# Altium footprint library IC.PcbLib: 1 footprints
Each footprint in its own frame and in the unit in brackets; x right, y up, seen from the top. Pads: shape width x height; smd on the part's side, far side on the other; paste and mask are expansions set on the pad; w line width, h text height; cw(c..) or ccw(c..) is an arc to the next point about the centre after c.
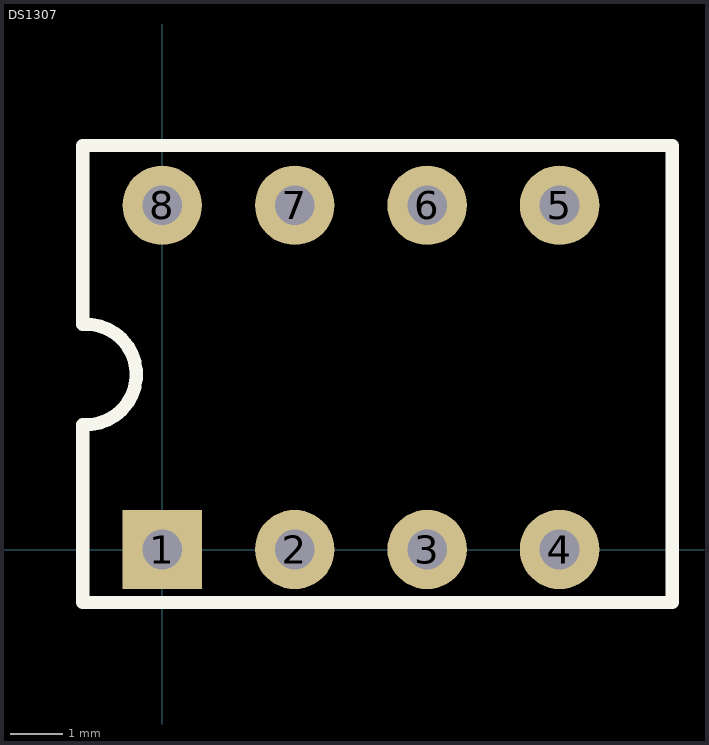
[diagram p0: the footprint, top view; thin cyan lines are the x and y axes]

## DS1307 [mil] "DS1307RTC"
pads (8):
  rect 60x60 hole 30: 1(0,0)
  round 60 hole 30: 2(100,0) 3(200,0) 4(300,0) 5(300,259.84) 6(200,259.84) 7(100,259.84) 8(0,259.84)
Top Overlay:
  lines w10: -60,-40 385,-40 385,305 -60,305 -60,170 cw(c-57.47,132.12) -60,94.24 -60,-40